# Altium schematic symbol library SI1308EDL.Schlib: 1 symbol
Pins are listed as number, name and electrical type; pins without a type are passive.

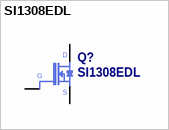
[diagram p0: symbol SI1308EDL]

## SI1308EDL
designator Q?
pins: 1 G, 2 S, 3 D